# EAGLE library part MAX487ESA+TCBX (library MAX487ESA_TCBX)
Low-Power, Slew-Rate-Limited RS-485/RS-422 Transceivers Check prices <https://pricing.snapeda.com/parts/MAX487ESA%2BTCBX/Maxim%20Integrated/view-part?ref=eda>
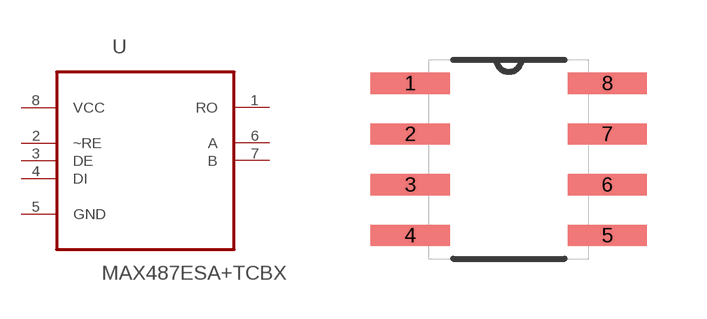
[diagram p0: symbol with the pads of SOIC127P600X175-8N; footprint SOIC127P600X175-8N]

Designator prefix U

## MAX487ESA+TCBX (Availability: Warning; Description: 1/1 Transceiver Half RS422, RS485 8-SOIC; MF: Maxim Integrated; MP: MAX487ESA+TCBX; Package: SOIC-8 Maxim Integrated; Price: None; Purchase-URL: https://pricing.snapeda.com/search/part/MAX487ESA+TCBX/?ref=eda)  [SOIC127P600X175-8N]
1  RO  out
2  ~RE  in
3  DE  in
4  DI  in
5  GND  pas
6  A
7  B
8  VCC  pwr

## Footprint SOIC127P600X175-8N (pad centres in mm)
smd 1.981 x 0.533: 1 -2.464,1.905; 2 -2.464,0.635; 3 -2.464,-0.635; 4 -2.464,-1.905; 5 2.464,-1.905; 6 2.464,-0.635; 7 2.464,0.635; 8 2.464,1.905